# Altium schematic symbol library 1N4148WS.SchLib: 1 symbol
Pins are listed as number, name and electrical type; pins without a type are passive.

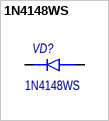
[diagram p0: symbol 1N4148WS]

## 1N4148WS
designator VD?
Signal diode; Назначение: Диод импульсный; Потребление, Вт: 0,001; Наименование: 1N4148WS
footprint SOD-323 (SC-76 plastic surface mounted package; 2 leads)
pins: 1 Cathode, 2 Anode